# Altium schematic symbol library SAM4N_Xplained_Pro.SCHLIB: 40 symbols
Pins are listed as number, name and electrical type; pins without a type are passive.

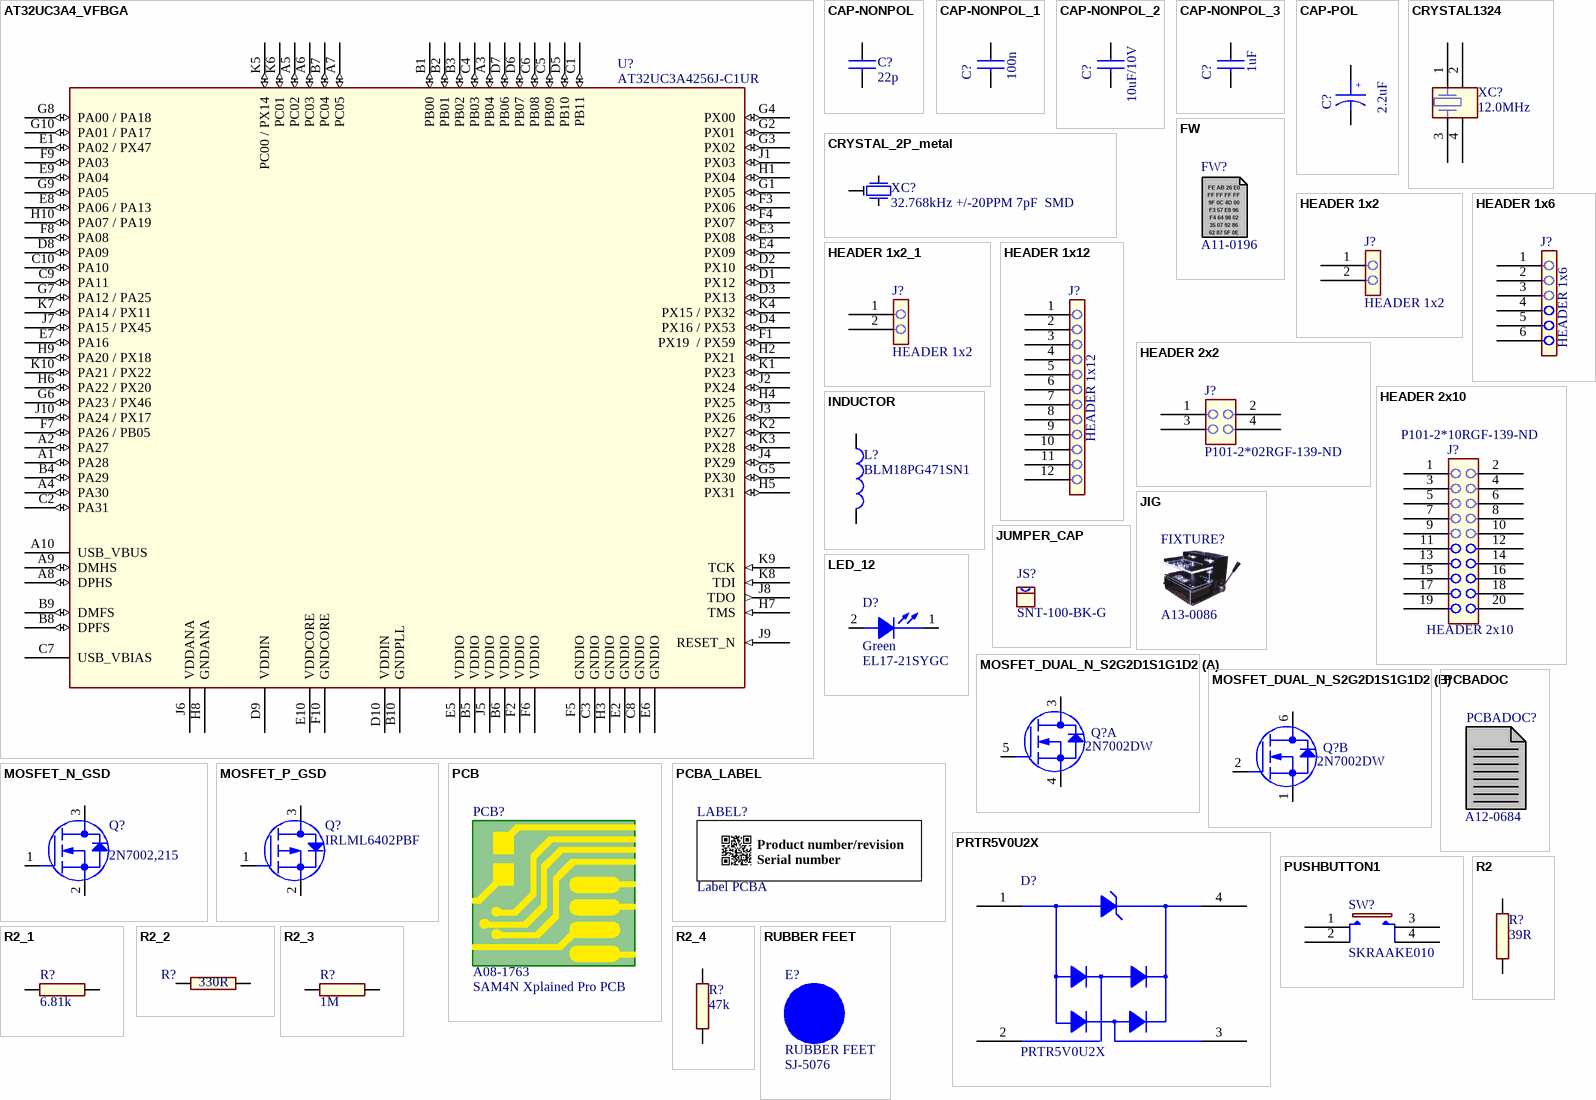
[diagram p0: symbols AT32UC3A4_VFBGA to RUBBER FEET]

## AT32UC3A4_VFBGA
designator U?, comment value AT32UC3A4256J-C1UR  (hidden comment: 100 ball VFBGA)
AVR 32-bit RISC MCU; PartGroup: Integrated Circuits,MCU, MPU, DSP,AVR MCU; Manufacturer: ATMEL; AN: A06-0736; TemperatureRange: -40 to +85 deg C; Height: 1; MPN: AT32UC3A4256J-C1UR
footprint AP6-00206
pins: A1 PA28 (io), A2 PA27 (io), A3 PB04 (io), A4 PA30 (io), A5 PC02 (io), A6 PC03 (io), A7 PC05 (io), A8 DPHS (io), A9 DMHS (io), A10 USB_VBUS (power), B1 PB00 (io), B2 PB01 (io), B3 PB02 (io), B4 PA29 (io), B5 VDDIO (power), B6 VDDIO (power), B7 PC04 (io), B8 DPFS (io), B9 DMFS (io), B10 GNDPLL (power), C1 PB11 (io), C2 PA31 (io), C3 GNDIO (power), C4 PB03 (io), C5 PB09 (io), C6 PB08 (io), C7 USB_VBIAS (power), C8 GNDIO (power), C9 PA11 (io), C10 PA10 (io), D1 PX12 (io), D2 PX10 (io), D3 PX13 (io), D4 PX16 / PX53 (io), D5 PB10 (io), D6 PB07 (io), D7 PB06 (io), D8 PA09 (io), D9 VDDIN (power), D10 VDDIN (power), E1 PA02 / PX47 (io), E2 GNDIO (power), E3 PX08 (io), E4 PX09 (io), E5 VDDIO (power), E6 GNDIO (power), E7 PA16 (io), E8 PA06 / PA13 (io), E9 PA04 (io), E10 VDDCORE (power), F1 PX19  / PX59 (io), F2 VDDIO (power), F3 PX06 (io), F4 PX07 (io), F5 GNDIO (power), F6 VDDIO (power), F7 PA26 / PB05 (io), F8 PA08 (io), F9 PA03 (io), F10 GNDCORE (power), G1 PX05 (io), G2 PX01 (io), G3 PX02 (io), G4 PX00 (io), G5 PX30 (io), G6 PA23 / PX46 (io), G7 PA12 / PA25 (io), G8 PA00 / PA18 (io), G9 PA05 (io), G10 PA01 / PA17 (io), H1 PX04 (io), H2 PX21 (io), H3 GNDIO (power), H4 PX25 (io), H5 PX31 (io), H6 PA22 / PX20 (io), H7 TMS (in), H8 GNDANA (power), H9 PA20 / PX18 (io), H10 PA07 / PA19 (io), J1 PX03 (io), J2 PX24 (io), J3 PX26 (io), J4 PX29 (io), J5 VDDIO (power), J6 VDDANA (power), J7 PA15 / PX45 (io), J8 TDO (out), J9 RESET_N (in), J10 PA24 / PX17 (io), K1 PX23 (io), K2 PX27 (io), K3 PX28 (io), K4 PX15 / PX32 (io), K5 PC00 / PX14 (io), K6 PC01 (io), K7 PA14 / PX11 (io), K8 TDI (in), K9 TCK (in), K10 PA21 / PX22 (io)

## CAP-NONPOL
designator C?, comment 22p
Ceramic capacitor, SMD 0402, NP0, 50V, +/-5%; PartGroup: Capacitors,Ceramic,SMD 0402; AN: A01-0019; TemperatureRange: -55 - +125 deg C; Value: 22p; Tolerance: 50V, +/-5%; Height: 0,550000011920929
footprint AP1-00001
footprint AP1-00053
pins: 1, 2

## CAP-NONPOL_1
designator C?, comment value 100n  (hidden comment: CAP-NONPOL)
Ceramic capacitor, SMD 0402, X7R, 16V, +/-10%; PartGroup: Capacitors,Ceramic,SMD 0402; Manufacturer: Kemet; MPN: C0402C104K4RACTU; AN: A01-0246; TemperatureRange: -55 - +125 deg C; Tolerance: 16V, +/-10%; Height: 0,5
footprint AP1-00001
pins: 1, 2

## CAP-NONPOL_2
designator C?, comment value 10uF/10V  (hidden comment: CAP-NONPOL)
Ceramic capacitor, SMD 0603, X5R, 10V, 10UF ± 20%; PartGroup: Capacitors,Ceramic,SMD 0603; Manufacturer: AVX; MPN: 0603ZD106MAT2A; AN: A01-0461; TemperatureRange: -55°C to +85°C; Tolerance: ± 20%
footprint AP1-00039
pins: 1, 2

## CAP-NONPOL_3
designator C?, comment value 1uF  (hidden comment: CAP-NONPOL)
Ceramic capacitor, SMD 0402, X5R, 10V, ±10 %; PartGroup: Capacitors,Ceramic,SMD 0402; Manufacturer: AVX; MPN: 0402ZD105KAT2A; AN: A01-0447; Height: 0.560000002384186
footprint AP1-00038
pins: 1, 2

## CAP-POL
designator C?  value 2.2uF  (hidden comment: CAP-POL)
Capacitor Tantalum 10V 2.2uF 10% ESR = 6 ohm; PartGroup: Capacitors,Tantalum; Manufacturer: Kemet; MPN: T494A225K010AT; AN: A01-0492; TemperatureRange: - 55 C to + 125 C; Tolerance: ±10%; Height: 1,79999995231628
footprint AP1-00036
pins: 1, 2
text: +

## CRYSTAL1324
designator XC?, comment 12.0MHz
Fox FQ5032B 12.0MHz SMD crystal 738B-12; PartGroup: Frequency devices,Crystals,SMD; Manufacturer: Fox  Electronics; MPN: FQ5032B-12-C-C-C-200-1; AN: A07-0042; Tolerance: 30PPM; Value: 12.0MHz; Height: 1,20000004768372
footprint AP7-00039
pins: 1, 2, 3, 4

## CRYSTAL_2P_metal
designator XC?, comment value 32.768kHz +/-20PPM 7pF  SMD  (hidden comment: Farnell order no:1539364)
32k768 crystal, +-20ppm, CL=7pF, max ESR 60kOhm, SMD; PartGroup: Frequency devices,Crystals,SMD; Manufacturer: Micro Crystal; MPN: MS1V-T1K 32.768kHz 7pF +/-20PPM TA; AN: A07-0052; Tolerance: +/- 20 PPM; TemperatureRange: -40 /+85; Height: 2,07999992370605
footprint AP7-00044
pins: 1, 2, 3

## FW
designator FW?  AN: A11-0196  (hidden comment: FW)  (mechanical)
EDBG secured firmware; PartGroup: Software,Firmware,Tools; Manufacturer: ATMEL; Value: EDBG secured firmware
text: FE AB 26 E0; FF FF FF FF; 9F 0C 4D 00; F3 57 E8 96; F4 64 98 02; 35 07 92 86; 62 87 5F 0E

## HEADER 1x2
designator J?
1x2 pin header, 2.54mm pitch, Pin-in-Paste THM; PartGroup: Mechanical devices,Connectors,Pin headers; Manufacturer: SAMTEC; AN: A08-1754; Value: HMTSW-102-23-F-S-237; TemperatureRange: - 55 deg C to + 125 deg C; Height: 6.09999990463257; MPN: HMTSW-102-23-F-S-237
footprint AP8-00733
pins: 1, 2

## HEADER 1x2_1
designator J?, comment HEADER 1x2
1x2 pin header, right angle, 2.54 mm pitch, through-hole; PartGroup: Mechanical devices,Connectors,Pin headers; Manufacturer: Pro-data International Corp; MPN: 2213R-2G; AN: A08-0764; Value: Pin header 1x2 right angle; Height: 2.53999996185303
footprint AP8-00367
pins: 1, 2

## HEADER 1x6
designator J?
1x6 pin header, 2.54mm pitch, Pin-in-Paste THM; PartGroup: Mechanical devices,Connectors,Pin headers; Manufacturer: SAMTEC; AN: A08-1616; Value: HMTSW-106-23-F-S-237; Height: 6.09999990463257; MPN: HMTSW-106-23-F-S-237
footprint AP8-00676
pins: 1, 2, 3, 4, 5, 6

## HEADER 1x12
designator J?
1x12 pin header, 2.54mm pitch, Pin-in-Paste THM; PartGroup: Mechanical devices,Connectors,Pin headers; Manufacturer: SAMTEC; AN: A08-1617; Value: HMTSW-112-23-F-S-237; Height: 6,09999990463257; MPN: HMTSW-112-23-F-S-237
footprint AP8-00677
pins: 1, 2, 3, 4, 5, 6, 7, 8, 9, 10, 11, 12

## HEADER 2x2
designator J?  value P101-2*02RGF-139-ND  (hidden comment: HEADER 2x2)
Pin header, 2x2, Right Angle, 2.54mm, THT, Pin In Paste; PartGroup: Mechanical devices,Connectors,Pin headers; AN: A08-1519; Height: 5.07999992370605; MPN: P101-2*02RGF-139-ND
footprint AP8-00628
pins: 1, 2, 3, 4

## HEADER 2x10
designator J?  value P101-2*10RGF-139-ND
Pin header, 2x10, Right Angle, 2.54mm, THM, Pin In Paste; PartGroup: Mechanical devices,Connectors,Pin headers; AN: A08-1513; MPN: P101-2*10RGF-139-ND
footprint AP8-00622
pins: 1, 2, 3, 4, 5, 6, 7, 8, 9, 10, 11, 12, 13, 14, 15, 16, 17, 18, 19, 20

## INDUCTOR
designator L?, comment BLM18PG471SN1
SMD RF inductor 0603. Z=470Ohm (@100MHz), Max R(dc)=0.65Ohm, Max current=1A; PartGroup: Inductors,EMI; Manufacturer: Murata; AN: A03-0035; Tolerance: ±25%; TemperatureRange: -55°C to +125°C; Value: BLM18PG471SN1; Height: 0,800000011920929; MPN: BLM18PG471SN1
footprint AP3-00005
pins: 1, 2

## JIG
designator FIXTURE?  AN: A13-0086  (hidden comment: JIG)  (mechanical)
Xplained PRO MCU board Jupiter Test Fixture; PartGroup: Test Equipment,Test Fixtures; Manufacturer: ESCATEC; Value: Xplained PRO MCU board Jupiter Test Fixture; MPN: Xplained PRO MCU board Jupiter Test Fixture

## JUMPER_CAP
designator JS?  value SNT-100-BK-G
Jumper cap for 2.54mm pinheader; PartGroup: Mechanical devices,Mounting accessories,Other; Manufacturer: SAMTEC; AN: A08-0543; MPN: SNT-100-BK-G
footprint AP8-00525

## LED_12
designator D?, comment Green  value EL17-21SYGC
LED, Green, Wave length=575nm, SMD 0805, ±70°; PartGroup: Opto,LEDs,SMD; Manufacturer: Everlight; AN: A10-0018; TemperatureRange: -40 - +85 deg C; Height: 1,10000002384186; MPN: EL17-21SYGC
footprint AP4-00013
pins: 1 CATHODE, 2 ANODE

## MOSFET_DUAL_N_S2G2D1S1G1D2
designator Q?, comment value 2N7002DW  (hidden comment: Same as 2N7002 but with two MOSFETs in one package)
Dual N-Channel MOSFET, 60V, 115mA cont,RDS(ON) < 7.5 Ohm @50mA@5V, SOT-363; PartGroup: Transistors,Small signal FET,SMD; Manufacturer: Fairchild; AN: A05-0051; TemperatureRange: -65 to 150 deg C; Height: 1,10000002384186; MPN: 2N7002DW
footprint AP5-00001
part A pins: 3 D1, 4 S1, 5 G1
part B pins: 1 S2, 2 G2, 6 D2

## MOSFET_N_GSD
designator Q?  value 2N7002,215  (hidden comment: MOSFET_N_GSD)
N-Channel MOSFET. 60V, 0.300A continuous, 1.2A Peak. RDS(ON) = 3.8Ohm@VGS=4.5V, VGS(th)<2.5V; PartGroup: Transistors,Small signal FET,SMD; Manufacturer: NXP; AN: A05-0085; TemperatureRange: -65 to 150 deg C; Height: 1.10000002384186; MPN: 2N7002,215
footprint AP5-00002
pins: 1 G, 2 S, 3 D

## MOSFET_P_GSD
designator Q?  value IRLML6402PBF  (hidden comment: MOSFET_P_GSD)
P-ch. MOSFET. -30V, -3.7A continuous,RDS(ON)=0.05Ohm@VGS=-4,5V, RDS(ON)=0.08Ohm@VGS=-2.5V; PartGroup: Transistors,Power FET,SMD; Manufacturer: International Rectifier; AN: A05-0087; TemperatureRange: -55 - +150 deg C; Height: 1,14999997615814; MPN: IRLML6402PBF
footprint AP5-00002
pins: 1 G, 2 S, 3 D

## PCB
designator PCB?  value SAM4N Xplained Pro PCB  AN: A08-1763  (hidden comment: PCB)  (mechanical)
SAM4N Xplained PRO PCB, 4 layer, size 60mm x 100mm; PartGroup: Mechanical devices,Printed circuit boards; Manufacturer: ATMEL; Height: 1,60000002384186

## PCBA_LABEL
designator LABEL?  value Label PCBA  (hidden comment: PCBA_LABEL)
PCBA identification label PP Top White Gloss; PartGroup: Mechanical devices,Packaging materials,Printed Labels; Manufacturer: ACT Logimark AS; MPN: 505462; AN: A09-0611
footprint AP8-00317
text: / Product number/revision / Serial number

## PCBADOC
designator PCBADOC?  AN: A12-0684  (hidden comment: PCBADOC)  (mechanical)
SAM4N Xplained Pro PCBA documentation; PartGroup: Documentation,PCBA Documents,Atmel; Manufacturer: ATMEL; Value: A09-1967 PCBA Files

## PRTR5V0U2X
designator D?
Double rail-to-rail USB ESD protection diode; OrcadPartType: Integrated Circuits&Special function&Protection; Manufacturer: Philips; AN: A06-0236; TemperatureRange: -40 to +85 C; Value: PRTR5V0U2X; PartType: Buy; Height: 1,10000002384186; MPN: PRTR5V0U2X
footprint AP4-00001
pins: 1 GND, 2 I/O 1, 3 I/O 2, 4 VCC

## PUSHBUTTON1
designator SW?, comment value SKRAAKE010  (hidden comment: Can be ordered in low volumes from Mouser)
6.2x6.2 mm SMD tact switch, same as A08-0091 but less force is needed; PartGroup: Mechanical devices,Switches,SMD; Manufacturer: ALPS; AN: A08-0790; TemperatureRange: -30 - +90 deg C; Height: 5,09999990463257; MPN: SKRAAKE010
footprint AP8-00137
pins: 1, 2, 3, 4

## R2
designator R?  value 39R  (hidden comment: R2)
Thick film resistor, SMD 0402, 1/16W, 1%; PartGroup: Resistors,SMD,0402 1%; AN: A02-0178; TemperatureRange: -55 - +125 deg C; Tolerance: 1 %; Height: 0,349999994039536
footprint AP2-00000
footprint AP2-00011
pins: 1, 2

## R2_1
designator R?, comment value 6.81k  (hidden comment: R2)
Thick film resistor, SMD 0402, 1/16W, 1%; PartGroup: Resistors,SMD,0402 1%; AN: A02-0539; TemperatureRange: -55 - +125 deg C; Tolerance: 1%; Height: 0,349999994039536
footprint AP2-00000
footprint AP2-00011 (Chip Resistor, 2-Leads, Body 1,0x0,5mm, IPC High Density)
pins: 1, 2

## R2_2
designator R?, comment value 330R  (hidden comment: R2)
Thick film resistor, SMD 0402, 1/16W, 1%; PartGroup: Resistors,SMD,0402 1%; AN: A02-0200; TemperatureRange: -55 - +125 deg C; Tolerance: 1 %; Height: 0,349999994039536
footprint AP2-00000
pins: 1, 2

## R2_3
designator R?, comment value 1M  (hidden comment: R2)
Thick film resistor, SMD 0402, 1/16W, 1%; PartGroup: Resistors,SMD,0402 1%; Manufacturer: KOA; MPN: RK73H1ETTP1004F; AN: A02-0284; TemperatureRange: -55 - +125 deg C; Tolerance: 1 %; Height: 0,349999994039536
footprint AP2-00000
simulation model Model Name (Model Description)
pins: 1, 2

## R2_4
designator R?, comment value 47k  (hidden comment: R2)
Thick film resistor, SMD 0402, 1/16W, 1%; PartGroup: Resistors,SMD,0402 1%; AN: A02-0252; TemperatureRange: -55 - +125 deg C; Tolerance: 1 %; Height: 0.349999994039536
footprint AP2-00000
pins: 1, 2

## RUBBER FEET
designator E?  value SJ-5076
2.8mm adhesive feet,diam 8.0mm; PartGroup: Mechanical devices,Mounting accessories; Manufacturer: 3M; AN: A08-0053; Height: 2,79999995231628; MPN: SJ-5076
footprint AP8-00192
pins: 1 FIDUCIAL

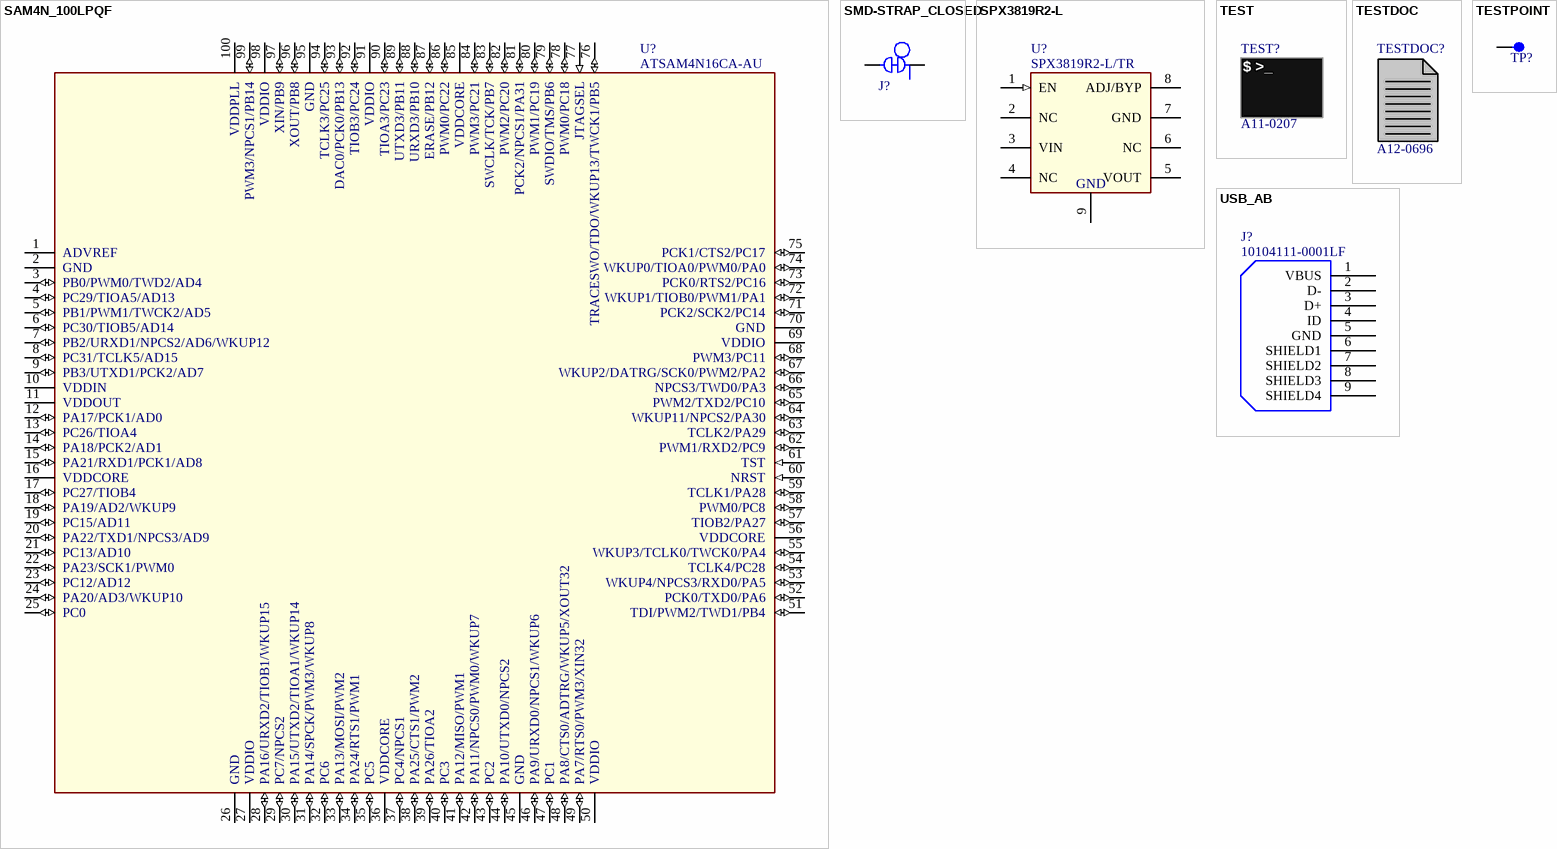
[diagram p1: symbols SAM4N_100LPQF to USB_AB]

## SAM4N_100LPQF
designator U?  value ATSAM4N16CA-AU  (hidden comment: SAM4N_100LPQF)
ARM Cortex-M4 MCU with 1MB flash, 80KB SRAM; PartGroup: Integrated Circuits,MCU, MPU, DSP,Other; Manufacturer: ATMEL; AN: A06-0963; TemperatureRange: -40°C to +85°C; Height: 1.60000002384186; MPN: ATSAM4N16CA-AU
footprint AP6-00292
pins: 1 ADVREF, 2 GND_2 (power), 3 PB0 (io), 4 PC29 (io), 5 PB1 (io), 6 PC30 (io), 7 PB2 (io), 8 PC31 (io), 9 PB3 (io), 10 VDDIN (power), 11 VDDOUT (power), 12 PA17 (io), 13 PC26 (io), 14 PA18 (io), 15 PA21 (io), 16 VDDCORE_16 (power), 17 PC27 (io), 18 PA19 (io), 19 PC15 (io), 20 PA22 (io), 21 PC13 (io), 22 PA23 (io), 23 PC12 (io), 24 PA20 (io), 25 PC0 (io), 26 GND_26 (power), 27 VDDIO_27 (power), 28 PA16 (io), 29 PC7 (io), 30 PA15 (io), 31 PA14 (io), 32 PC6 (io), 33 PA13 (io), 34 PA24 (io), 35 PC5 (io), 36 VDDCORE_36 (power), 37 PC4 (io), 38 PA25 (io), 39 PA26 (io), 40 PC3 (io), 41 PA12 (io), 42 PA11 (io), 43 PC2 (io), 44 PA10 (io), 45 GND_45 (power), 46 PA9 (io), 47 PC1 (io), 48 PA8 (io), 49 PA7 (io), 50 VDDIO_50 (power), 51 PB4 (io), 52 PA6 (io), 53 PA5 (io), 54 PC28 (io), 55 PA4 (io), 56 VDDCORE_56 (power), 57 PA27 (io), 58 PC8 (io), 59 PA28 (io), 60 NRST (in), 61 TST (in), 62 PC9 (io), 63 PA29 (io), 64 PA30 (io), 65 PC10 (io), 66 PA3 (io), 67 PA2 (io), 68 PC11 (io), 69 VDDIO_69 (power), 70 GND_70 (power), 71 PC14 (io), 72 PA1 (io), 73 PC16 (io), 74 PA0 (io), 75 PC17 (io), 76 PB5 (io), 77 JTAGSEL (in), 78 PC18 (io), 79 PB6 (io), 80 PC19 (io), 81 PA31 (io), 82 PC20 (io), 83 PB7 (io), 84 PC21 (io), 85 VDDCORE_85 (power), 86 PC22 (io), 87 PB12 (io), 88 PB10 (io), 89 PB11 (io), 90 PC23 (io), 91 VDDIO_91 (power), 92 PC24 (io), 93 PB13 (io), 94 PC25 (io), 95 GND_95 (power), 96 PB8 (io), 97 PB9 (io), 98 VDDIO_98 (power), 99 PB14 (io), 100 VDDPLL (power)
text: PWM3/NPCS1/PB14; VDDIO; XIN/PB9; XOUT/PB8; GND; TCLK3/PC25; DAC0/PCK0/PB13; TIOB3/PC24; TIOA3/PC23; UTXD3/PB11; URXD3/PB10; ERASE/PB12; PWM0/PC22; VDDCORE; PWM3/PC21; SWCLK/TCK/PB7; PWM2/PC20; PCK2/NPCS1/PA31; PWM1/PC19; SWDIO/TMS/PB6; PWM0/PC18; TRACESWO/TDO/WKUP13/TWCK1/PB5; PCK1/CTS2/PC17; WKUP0/TIOA0/PWM0/PA0; PB0/PWM0/TWD2/AD4; PCK0/RTS2/PC16; PC29/TIOA5/AD13; WKUP1/TIOB0/PWM1/PA1; PB1/PWM1/TWCK2/AD5; PCK2/SCK2/PC14; PC30/TIOB5/AD14; PB2/URXD1/NPCS2/AD6/WKUP12; PC31/TCLK5/AD15; PWM3/PC11; PB3/UTXD1/PCK2/AD7; WKUP2/DATRG/SCK0/PWM2/PA2; NPCS3/TWD0/PA3; PWM2/TXD2/PC10; PA17/PCK1/AD0; WKUP11/NPCS2/PA30; PC26/TIOA4; TCLK2/PA29; PA18/PCK2/AD1; PWM1/RXD2/PC9; PA21/RXD1/PCK1/AD8; PC27/TIOB4; TCLK1/PA28; PA19/AD2/WKUP9; PWM0/PC8; PC15/AD11; TIOB2/PA27; PA22/TXD1/NPCS3/AD9; PC13/AD10; WKUP3/TCLK0/TWCK0/PA4; PA23/SCK1/PWM0; TCLK4/PC28; PC12/AD12; WKUP4/NPCS3/RXD0/PA5; PA20/AD3/WKUP10; PCK0/TXD0/PA6; TDI/PWM2/TWD1/PB4; PA16/URXD2/TIOB1/WKUP15; PC7/NPCS2; PA15/UTXD2/TIOA1/WKUP14; PA14/SPCK/PWM3/WKUP8; PA13/MOSI/PWM2; PA24/RTS1/PWM1; PC4/NPCS1; PA25/CTS1/PWM2; PA26/TIOA2; PA12/MISO/PWM1; PA11/NPCS0/PWM0/WKUP7; PA10/UTXD0/NPCS2; PA9/URXD0/NPCS1/WKUP6; PA8/CTS0/ADTRG/WKUP5/XOUT32; PA7/RTS0/PWM3/XIN32

## SMD-STRAP_CLOSED
designator J?  (value not drawn)  (net tie, no BOM)
Default closed SMD strap, 0603 size; PartGroup: Mechanical devices,PCB implemented components; AN: A09-0783; Value: SMD-STRAP_0603_CLOSED; Height: 0
footprint AP9-00044
pins: 1, 2

## SPX3819R2-L
designator U?, comment value SPX3819R2-L/TR  (hidden comment: Mouser: 1016-1588-2-ND)
500mA LDO, ADJ, low noise, 8-DFN package; PartGroup: Integrated Circuits,Regulators,Linear; Manufacturer: Exar; AN: A06-0957; Tolerance: ±1%; TemperatureRange: -40°C to +125°C; Height: 0.899999976158142; MPN: SPX3819R2-L/TR
footprint AP6-00338
pins: 1 EN (in), 2 NC, 3 VIN (power), 4 NC, 5 VOUT (power), 6 NC, 7 GND (power), 8 ADJ/BYP, 9 GND (power)

## TEST
designator TEST?  AN: A11-0207  (hidden comment: TEST)  (mechanical)
Fixture test for SAM4N Xplained Pro; PartGroup: Software,Test software,Starter Kit; Manufacturer: ATMEL; Value: SAM4N Xplained Pro test
text: $ >_

## TESTDOC
designator TESTDOC?  AN: A12-0696  (hidden comment: TESTDOC)  (mechanical)
SAM4N Xplained Pro Test Instructions; PartGroup: Documentation,Procedures,Test Instructions; Manufacturer: ATMEL; Value: SAM4N Xplained Pro Test Instructions

## TESTPOINT
designator TP?, comment TESTPAD  (value not drawn)  (no BOM)
Single SMD testpad; PartGroup: Mechanical devices,Connectors,Test points; AN: A08-0004; Value: TESTPAD; Height: 0
footprint AP8-00010
pins: 1

## USB_AB
designator J?  value 10104111-0001LF  (hidden comment: USB_AB)
Micro USB AB Connector; PartGroup: Mechanical devices,Connectors,USB; Manufacturer: FCI; AN: A08-1368; Height: 2.59999990463257; MPN: 10104111-0001LF
footprint AP8-00604
pins: 1 VBUS, 2 D-, 3 D+, 4 ID, 5 GND, 6 SHIELD1, 7 SHIELD2, 8 SHIELD3, 9 SHIELD4